# Altium footprint library con-lsta.PCBLIB: 1 footprints
Each footprint in its own frame and in the unit in brackets; x right, y up, seen from the top. Pads: shape width x height; smd on the part's side, far side on the other; paste and mask are expansions set on the pad; w line width, h text height; cw(c..) or ccw(c..) is an arc to the next point about the centre after c.
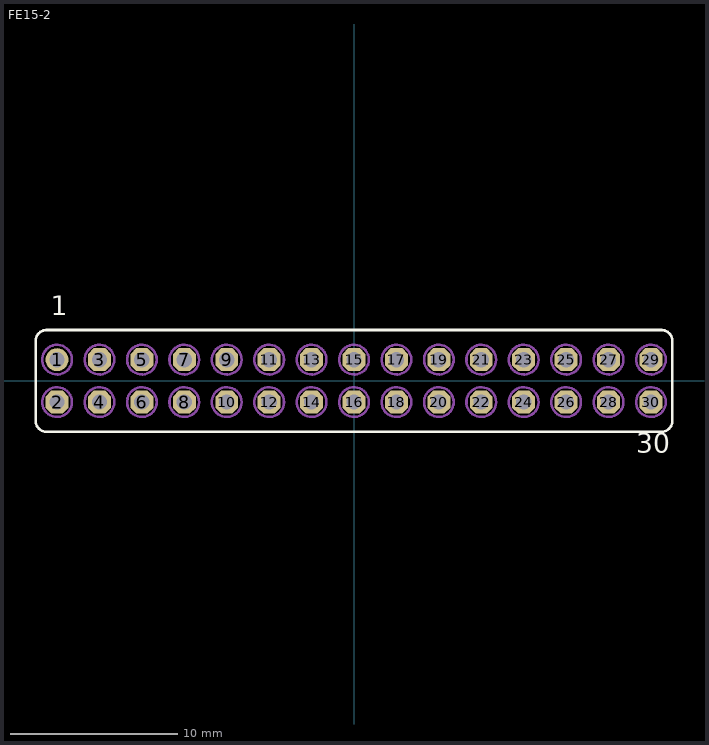
[diagram p0: the footprint, top view; thin cyan lines are the x and y axes]

## FE15-2 [mil]
pads (30):
  round 54 hole 36: 1(-700,50)
  oct 54x54 hole 36: 2(-700,-50) 3(-600,50) 4(-600,-50) 5(-500,50) 6(-500,-50) 7(-400,50) 8(-400,-50) 9(-300,50) 10(-300,-50) 11(-200,50) 12(-200,-50) 13(-100,50) 14(-100,-50) 15(0,50) 16(0,-50) 17(100,50) 18(100,-50) 19(200,50) 20(200,-50) 21(300,50) 22(300,-50) 23(400,50) 24(400,-50) 25(500,50) 26(500,-50) 27(600,50) 28(600,-50) 29(700,50) 30(700,-50)
Top Overlay:
  lines w6: -750,-95 -750,95 cw(c-725,95) -725,120 725,120 cw(c725,95) 750,95 750,-95 cw(c725,-95) 725,-120 -725,-120 cw(c-725,-95) -750,-95
  text "1" at -715,140 h77.5
  text "30" at 665,-185 h77.5
Mechanical 16:
  circle w16: c-700,-50 r5
  circle w16: c-700,50 r5
  circle w16: c-600,-50 r5
  circle w16: c-600,50 r5
  circle w16: c-500,-50 r5
  circle w16: c-500,50 r5
  circle w16: c-400,-50 r5
  circle w16: c-400,50 r5
  circle w16: c-300,-50 r5
  circle w16: c-300,50 r5
  circle w6: c-700,-50 r35
  circle w6: c-700,50 r35
  circle w6: c-600,50 r35
  circle w6: c-500,50 r35
  circle w6: c-400,50 r35
  circle w6: c-300,50 r35
  circle w6: c-600,-50 r35
  circle w6: c-500,-50 r35
  circle w6: c-400,-50 r35
  circle w6: c-300,-50 r35
  circle w16: c-200,-50 r5
  circle w16: c-200,50 r5
  circle w16: c-100,-50 r5
  circle w16: c-100,50 r5
  circle w16: c0,-50 r5
  circle w16: c0,50 r5
  circle w16: c100,-50 r5
  circle w16: c100,50 r5
  circle w16: c200,-50 r5
  circle w16: c200,50 r5
  circle w6: c-200,-50 r35
  circle w6: c-200,50 r35
  circle w6: c-100,50 r35
  circle w6: c0,50 r35
  circle w6: c100,50 r35
  circle w6: c200,50 r35
  circle w6: c-100,-50 r35
  circle w6: c0,-50 r35
  circle w6: c100,-50 r35
  circle w6: c200,-50 r35
  circle w16: c300,-50 r5
  circle w16: c300,50 r5
  circle w16: c400,-50 r5
  circle w16: c400,50 r5
  circle w16: c500,-50 r5
  circle w16: c500,50 r5
  circle w16: c600,-50 r5
  circle w16: c600,50 r5
  circle w16: c700,-50 r5
  circle w16: c700,50 r5
  circle w6: c300,-50 r35
  circle w6: c300,50 r35
  circle w6: c400,50 r35
  circle w6: c500,50 r35
  circle w6: c600,50 r35
  circle w6: c700,50 r35
  circle w6: c400,-50 r35
  circle w6: c500,-50 r35
  circle w6: c600,-50 r35
  circle w6: c700,-50 r35